# Altium footprint library Energy-Meter.PcbLib: 30 footprints (part 1 of 2)
Each footprint in its own frame and in the unit in brackets; x right, y up, seen from the top. Pads: shape width x height; smd on the part's side, far side on the other; paste and mask are expansions set on the pad; w line width, h text height; cw(c..) or ccw(c..) is an arc to the next point about the centre after c.
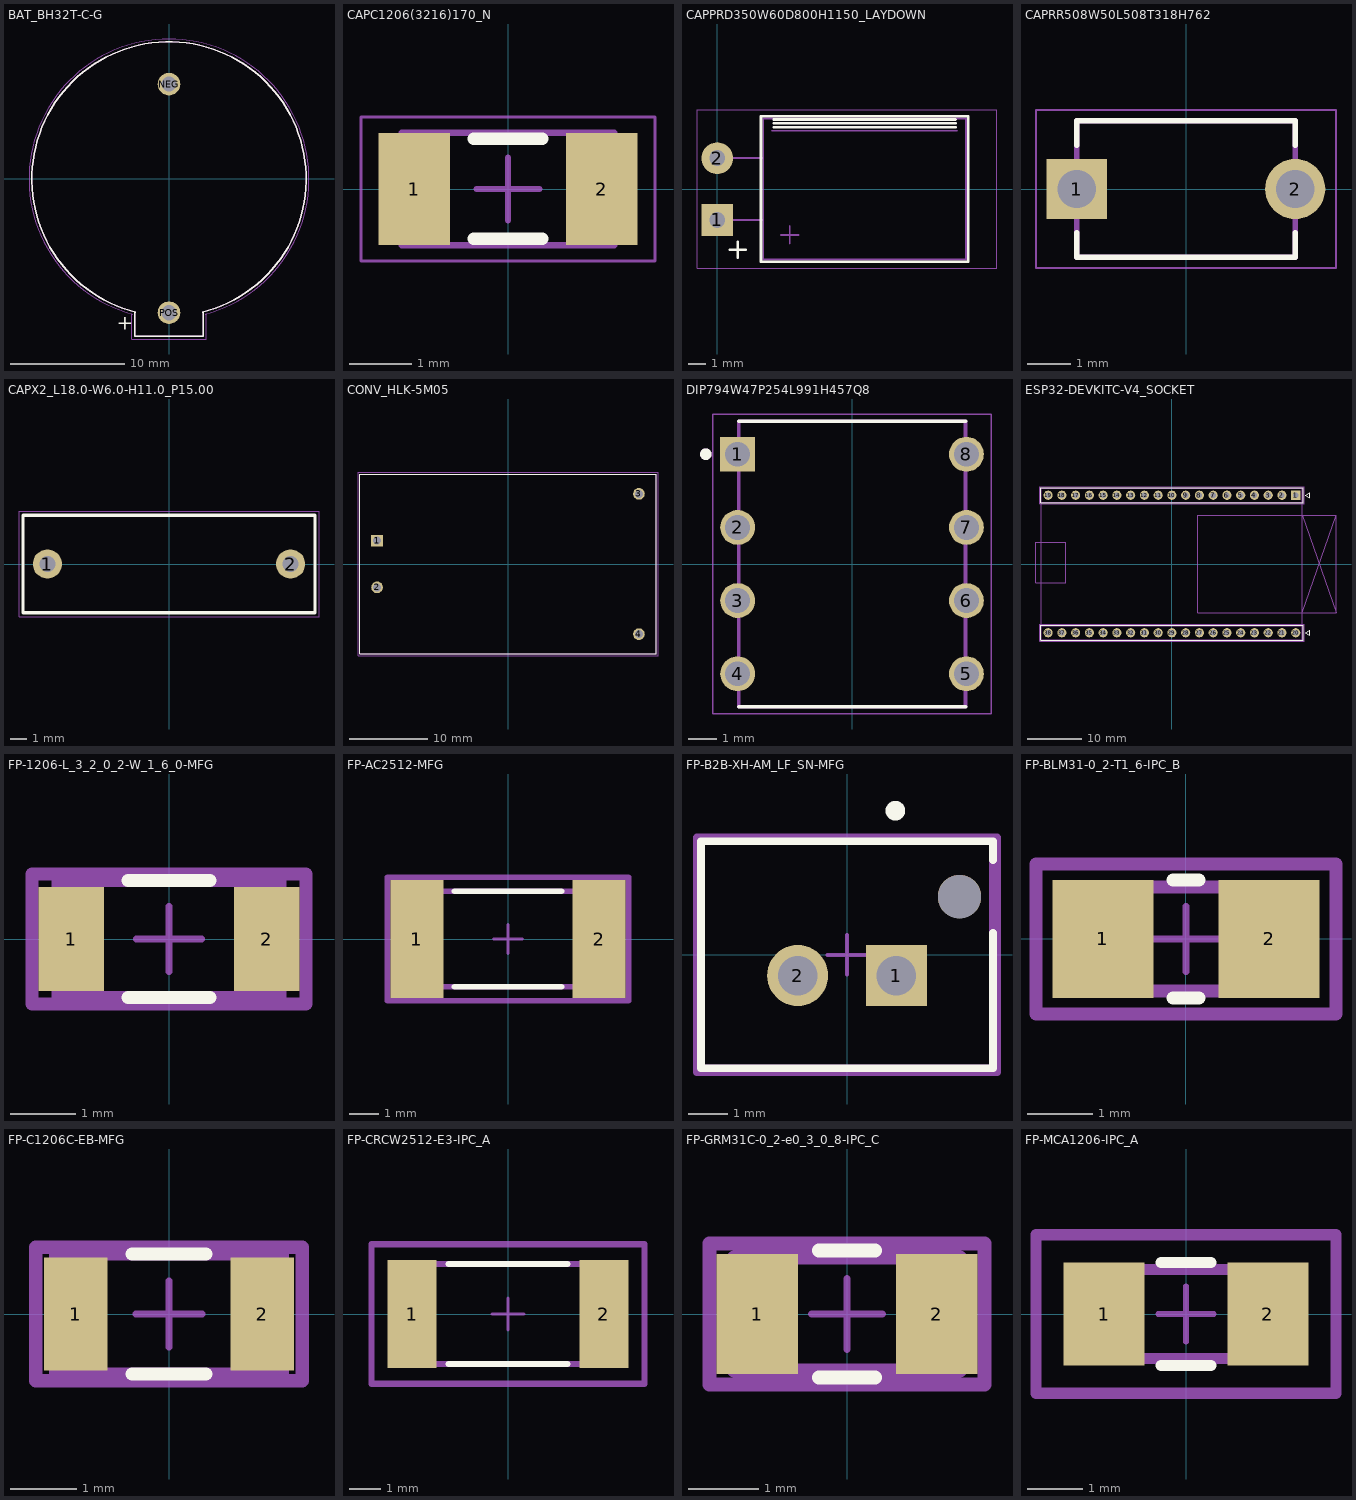
[diagram p0: the footprints below, top view; thin cyan lines are the x and y axes]

## BAT_BH32T-C-G [mil]
height 366.14
pads (2):
  round 78 hole 52: NEG(0,326.77) POS(0,-460.63)
Top Overlay:
  lines w5: -118.11,-457.68 -118.11,-541.34 118.11,-541.34 118.11,-457.68 ; -114.32,-458.64 cw(c0,-0.11) 114.32,-458.64
  text "+" at -180.31,-519.68 h50
Top 3D Body:
  lines w5: -118.11,-457.68 -118.11,-541.34 118.11,-541.34 118.11,-457.68 ; -114.32,-458.64 cw(c0,-0.11) 114.32,-458.64
Top Courtyard:
  lines w1.97: -127.95,-465 -127.95,-551.18 127.95,-551.18 127.95,-465 ; -124.82,-465.85 cw(c0,-0.01) 124.82,-465.85
3D body "BH32T-C-G--3DModel-STEP-1.STEP": height 310, standoff -157, extent -474.98,-535 474.71,475

## CAPC1206(3216)170_N [mm] "Chip Capacitor, Body 3.2x1.6mm, Height 1.7mm, IPC Medium Density"
height 1.7
pads (2):
  rect 1.15x1.8 smd: 1(-1.5,0) 2(1.5,0)
Top Overlay:
  lines w0.2: -0.55,-0.8 0.55,-0.8 ; -0.55,0.8 0.55,0.8
Top 3D Body:
  lines w0.1: -1.7,-0.9 -1.7,0.9 1.7,0.9 1.7,-0.9 -1.7,-0.9
Top Courtyard:
  lines w0.05: -2.35,-1.15 -2.35,1.15 2.35,1.15 2.35,-1.15 -2.35,-1.15
  lines w0.1: -0.5,0 0.5,0 ; 0,-0.5 0,0.5
3D body: height 1.7, standoff 0, extent -1.2,-0.9 1.2,0.9
3D body: height 1.7, standoff 0, extent -1.7,-0.9 -1.2,0.9
3D body: height 1.7, standoff 0, extent 1.2,-0.9 1.7,0.9

## CAPPRD350W60D800H1150_LAYDOWN [mm] "Radial electrolytic cap laid down, D8x11.5mm, 3.5mm pitch, leads 0.6mm bent 2mm from seal"
height 8.05
pads (2):
  rect 1.8x1.8 hole 0.9: 1(0,-1.75)
  round 1.8 hole 0.9: 2(0,1.75)
Top Overlay:
  lines w0.15: 0.7,-3.45 1.6,-3.45 ; 1.15,-3.9 1.15,-3 ; 3.2,3.5 13.5,3.5 ; 3.2,3.72 13.5,3.72 ; 3.2,3.94 13.5,3.94 ; 2.48,-4.12 2.48,4.12 14.22,4.12 14.22,-4.12 2.48,-4.12
Top 3D Body:
  lines w0.1: 0,-1.75 2.6,-1.75 ; 0,1.75 2.6,1.75 ; 3.1,3.3 13.6,3.3 ; 3.6,-2.6 4.6,-2.6 ; 4.1,-3.1 4.1,-2.1 ; 2.6,-4 2.6,4 14.1,4 14.1,-4 2.6,-4
Top Courtyard:
  lines w0.05: -1.15,-4.5 -1.15,4.5 15.85,4.5 15.85,-4.5 -1.15,-4.5
3D body "CAP_EL_470UF_10V_D8X11.5_P3.5_LAYDOWN.step": height 8.04, standoff -3, extent -0.298,-4.053 14.105,4.036

## CAPRR508W50L508T318H762 [mm]
height 7.62
pads (2):
  rect 1.398x1.398 / inner round 1.398 / far side rect 1.398x1.398 hole 0.89: 1(-2.54,0)
  round 1.398 hole 0.89: 2(2.54,0)
Top Overlay:
  lines w0.127: -2.54,-1.019 -2.54,-1.587 2.54,-1.587 2.54,-1.019 ; -2.54,1.019 -2.54,1.587 2.54,1.587 2.54,1.019
Top 3D Body:
  lines w0.127: -2.54,-1.587 -2.54,1.587 2.54,1.587 2.54,-1.587 -2.54,-1.587
Top Courtyard:
  lines w0.05: -3.489,-1.837 -3.489,1.837 3.489,1.837 3.489,-1.837 -3.489,-1.837
3D body "AR215C104K4R.STEP": height 6.37, standoff -7.11, extent -2.794,-1.587 2.794,1.587

## CAPX2_L18.0-W6.0-H11.0_P15.00 [mm] "Boxed radial film capacitor, body 18.0 x 6.0 mm footprint x 11.0 mm high, 15.00 mm pitch, 1.00 mm holes. X2 safety cap, 275 VAC"
height 11.5
pads (2):
  round 1.8 hole 1: 1(-7.5,0) 2(7.5,0)
Top Overlay:
  lines w0.2: -9,-3 9,-3 9,3 -9,3 -9,-3
Top 3D Body:
  lines w0.1: -9,-3 9,-3 9,3 -9,3 -9,-3
Top Courtyard:
  lines w0.05: -9.25,-3.25 9.25,-3.25 9.25,3.25 -9.25,3.25 -9.25,-3.25
3D body "CAP_X2_0u1_275VAC_P15.step": height 11.5, standoff -1.6, extent -9,-3 9,3

## CONV_HLK-5M05 [mm]
height 9.3
pads (4):
  rect 1.5x1.5 / inner round 1.5 / far side rect 1.5x1.5 hole 1: 1(-16.8,3)
  round 1.5 hole 1: 2(-16.8,-3) 3(16.8,9) 4(16.8,-9)
Top Overlay:
  lines w0.127: -19,-11.5 19,-11.5 19,11.5 -19,11.5 -19,-11.5
Top 3D Body:
  lines w0.127: -19,-11.5 -19,11.5 19,11.5 19,-11.5 -19,-11.5
Top Courtyard:
  lines w0.05: -19.25,-11.75 -19.25,11.75 19.25,11.75 19.25,-11.75 -19.25,-11.75
3D body "step_temp.STEP": height 18.05, standoff -4.95, extent -19,-11.5 19,11.5

## DIP794W47P254L991H457Q8 [mm]
height 9.3
pads (8):
  rect 1.21x1.21 / inner round 1.21 / far side rect 1.21x1.21 hole 0.86 mask+0.102: 1(-3.97,3.81)
  round 1.21 hole 0.86 mask+0.102: 2(-3.97,1.27) 3(-3.97,-1.27) 4(-3.97,-3.81) 5(3.97,-3.81) 6(3.97,-1.27) 7(3.97,1.27) 8(3.97,3.81)
Top Overlay:
  circle w0.2: c-5.075,3.81 r0.1
  lines w0.127: -3.935,-4.955 3.935,-4.955 ; -3.935,4.955 3.935,4.955
Top 3D Body:
  circle w0.2: c-5.075,3.81 r0.1
  lines w0.127: -3.935,-4.955 -3.935,4.955 3.935,4.955 3.935,-4.955 -3.935,-4.955
Top Courtyard:
  lines w0.05: -4.825,-5.205 -4.825,5.205 4.825,5.205 4.825,-5.205 -4.825,-5.205
3D body "step_temp.STEP": height 4.57, standoff -3.81, extent -3.949,-4.687 3.949,4.687

## ESP32-DEVKITC-V4_SOCKET [mm] "ESP32-DevKitC V4 socketed on 2x 1x19 female headers 2.54mm H8.5mm, rows 25.4mm apart"
height 15.71
pads (38):
  rect 1.7x1.7 hole 1: 1(22.86,12.7)
  round 1.7 hole 1: 2(20.32,12.7) 3(17.78,12.7) 4(15.24,12.7) 5(12.7,12.7) 6(10.16,12.7) 7(7.62,12.7) 8(5.08,12.7) 9(2.54,12.7) 10(0,12.7) 11(-2.54,12.7) 12(-5.08,12.7) 13(-7.62,12.7) 14(-10.16,12.7) 15(-12.7,12.7) 16(-15.24,12.7) 17(-17.78,12.7) 18(-20.32,12.7) 19(-22.86,12.7) 20(22.86,-12.7) 21(20.32,-12.7) 22(17.78,-12.7) 23(15.24,-12.7) 24(12.7,-12.7) 25(10.16,-12.7) 26(7.62,-12.7) 27(5.08,-12.7) 28(2.54,-12.7) 29(0,-12.7) 30(-2.54,-12.7) 31(-5.08,-12.7) 32(-7.62,-12.7) 33(-10.16,-12.7) 34(-12.7,-12.7) 35(-15.24,-12.7) 36(-17.78,-12.7) 37(-20.32,-12.7) 38(-22.86,-12.7)
Top Overlay:
  lines w0.15: -24.25,-14.08 24.25,-14.08 24.25,-11.32 -24.25,-11.32 -24.25,-14.08 ; -24.25,11.32 24.25,11.32 24.25,14.08 -24.25,14.08 -24.25,11.32 ; 24.65,-12.7 25.45,-12.2 25.45,-13.2 24.65,-12.7 ; 24.65,12.7 25.45,13.2 25.45,12.2 24.65,12.7
Top 3D Body:
  lines w0.1: 24.1,-9 30.3,9 ; 24.1,9 30.3,-9 ; 30.3,-9 4.8,-9 4.8,9 30.3,9 ; 30.3,-9 30.3,9 ; -25.1,-3.45 -19.6,-3.45 -19.6,4.05 -25.1,4.05 -25.1,-3.45 ; -24.13,-13.97 24.13,-13.97 24.13,-11.43 -24.13,-11.43 -24.13,-13.97 ; -24.13,11.43 24.13,11.43 24.13,13.97 -24.13,13.97 -24.13,11.43 ; -24.1,-13.95 24.1,-13.95 24.1,13.95 -24.1,13.95 -24.1,-13.95
Top Courtyard:
  lines w0.05: -24.4,-14.25 24.4,-14.25 24.4,-11.15 -24.4,-11.15 -24.4,-14.25 ; -24.4,11.15 24.4,11.15 24.4,14.25 -24.4,14.25 -24.4,11.15
3D body "FemaleHeader_1x19_P2.54_H8.5_J2.step": height 8.5, standoff 0, extent -24.13,11.43 24.13,13.97
3D body "FemaleHeader_1x19_P2.54_H8.5_J3.step": height 8.5, standoff 0, extent -24.13,-13.97 24.13,-11.43
3D body "ESP32-DevKitC-V4_on_8.5mm_headers.step": height 15.71, standoff 8.5, extent -25.1,-13.97 30.3,13.97

## FP-1206-L_3_2_0_2-W_1_6_0-MFG [mm]
height 9.3
pads (2):
  rect 1x1.6 smd paste+0 mask+0: 1(-1.5,0) 2(1.5,0)
Top Overlay:
  lines w0.2: -0.625,-0.9 0.625,-0.9 ; -0.625,0.9 0.625,0.9
Top Assembly:
  lines w0.2: -2.1,-1 2.1,-1 2.1,1 -2.1,1 -2.1,-1
  text ".Designator" at 0,0.188 h1
Top 3D Body:
  lines w0.2: -1.7,-0.9 1.7,-0.9 1.7,0.9 -1.7,0.9 -1.7,-0.9
Top Courtyard:
  lines w0.2: -2.1,-1 2.1,-1 2.1,1 -2.1,1 -2.1,-1
Top Component Center:
  lines w0.1: -0.5,0 0.5,0 ; 0,-0.5 0,0.5
3D body "Cap_AVX_12066C226KAT2A_eec.STEP": height 2.29, standoff 0, extent -1.6,-0.8 1.6,0.8

## FP-AC2512-MFG [mm]
height 9.3
pads (2):
  rect 1.8x4 smd paste+0 mask+0: 1(-3.1,0) 2(3.1,0)
Top Overlay:
  lines w0.2: -1.825,-1.625 1.825,-1.625 ; -1.825,1.625 1.825,1.625
Top Assembly:
  lines w0.2: -4.1,-2.1 -4.1,2.1 4.1,2.1 4.1,-2.1 -4.1,-2.1
  text ".Designator" at 0,0.188 h1
Top 3D Body:
  lines w0.2: -3.225,-1.625 -3.225,1.625 3.225,1.625 3.225,-1.625 -3.225,-1.625
Top Courtyard:
  lines w0.2: -4.1,-2.1 -4.1,2.1 4.1,2.1 4.1,-2.1 -4.1,-2.1
Top Component Center:
  lines w0.1: -0.5,0 0.5,0 ; 0,-0.5 0,0.5
3D body "Res_Yageo_AC2512FK-0712K1L_eec.STEP": height 0.65, standoff 0, extent -3.192,-1.54 3.158,1.56

## FP-B2B-XH-AM_LF_SN-MFG [mm]
height 9.3
pads (3):
  rect 1.55x1.55 hole 1 paste-2539.97 mask+0: 1(1.25,-0.525)
  round 1.55 hole 1 paste-2539.97 mask+0: 2(-1.25,-0.525)
  round 1.1 hole 1.1 unplated paste-2539.97 mask+0: ""(2.85,1.475)
Top Overlay:
  circle w0.25: c1.225,3.65 r0.125
  lines w0.2: 3.7,0.55 3.7,-2.875 -3.7,-2.875 -3.7,2.875 3.7,2.875 3.7,2.4
Top Assembly:
  lines w0.2: -3.8,-2.975 3.8,-2.975 3.8,2.975 -3.8,2.975 -3.8,-2.975
  text ".Designator" at 0,0.188 h1
Top 3D Body:
  lines w0.2: -3.7,-2.875 3.7,-2.875 3.7,2.875 -3.7,2.875 -3.7,-2.875
Top Courtyard:
  lines w0.2: -3.8,-2.975 3.8,-2.975 3.8,2.975 -3.8,2.975 -3.8,-2.975
Top Component Center:
  lines w0.1: -0.5,0 0.5,0 ; 0,-0.5 0,0.5
3D body "Conn_JST_B2B-XH-AM_LF_SN_eec.STEP": height 0.25, standoff 0, extent -3.8,-2.975 3.8,2.975

## FP-BLM31-0_2-T1_6-IPC_B [mm]
height 9.3
pads (2):
  rect 1.554x1.806 smd paste+0 mask+0: 1(-1.276,0) 2(1.276,0)
Top Overlay:
  lines w0.2: -0.199,-0.903 0.199,-0.903 ; -0.199,0.903 0.199,0.903
Top Assembly:
  lines w0.2: -2.303,-1.153 2.303,-1.153 2.303,1.153 -2.303,1.153 -2.303,-1.153
  text ".Designator" at 0,0.188 h1
Top 3D Body:
  lines w0.2: -1.6,-0.8 1.6,-0.8 1.6,0.8 -1.6,0.8 -1.6,-0.8
Top Courtyard:
  lines w0.2: -2.303,-1.153 2.303,-1.153 2.303,1.153 -2.303,1.153 -2.303,-1.153
Top Component Center:
  lines w0.1: -0.5,0 0.5,0 ; 0,-0.5 0,0.5
3D body "FBead_Murata_BLM31KN121SH1L_eec.STEP": height 1.8, standoff 0, extent -1.6,-0.8 1.6,0.8

## FP-C1206C-EB-MFG [mm]
height 9.3
pads (2):
  rect 0.95x1.7 smd paste+0 mask+0: 1(-1.4,0) 2(1.4,0)
Top Overlay:
  lines w0.2: -0.55,-0.9 0.55,-0.9 ; -0.55,0.9 0.55,0.9
Top Assembly:
  lines w0.2: -2,-1 2,-1 2,1 -2,1 -2,-1
  text ".Designator" at 0,0.188 h1
Top 3D Body:
  lines w0.2: -1.7,-0.9 1.7,-0.9 1.7,0.9 -1.7,0.9 -1.7,-0.9
Top Courtyard:
  lines w0.2: -2,-1 2,-1 2,1 -2,1 -2,-1
Top Component Center:
  lines w0.1: -0.5,0 0.5,0 ; 0,-0.5 0,0.5
3D body "Cap_KEMET_C1206C472K4RACTU_eec.STEP": height 0.88, standoff 0, extent -1.6,-0.8 1.6,0.8

## FP-CRCW2512-E3-IPC_A [mm]
height 9.3
pads (2):
  rect 1.555x3.408 smd paste+0 mask+0: 1(-3.026,0) 2(3.026,0)
Top Overlay:
  lines w0.2: -1.873,-1.575 1.873,-1.575 ; -1.873,1.575 1.873,1.575
Top Assembly:
  lines w0.2: -4.303,-2.204 4.303,-2.204 4.303,2.204 -4.303,2.204 -4.303,-2.204
  text ".Designator" at 0,0.188 h1
Top 3D Body:
  lines w0.2: -3.15,-1.575 3.15,-1.575 3.15,1.575 -3.15,1.575 -3.15,-1.575
Top Courtyard:
  lines w0.2: -4.303,-2.204 4.303,-2.204 4.303,2.204 -4.303,2.204 -4.303,-2.204
Top Component Center:
  lines w0.1: -0.5,0 0.5,0 ; 0,-0.5 0,0.5
3D body "Res_Vishay_CRCW25121K80FKEG_eec.STEP": height 0.7, standoff 0, extent -3.15,-1.575 3.15,1.575

## FP-GRM31C-0_2-e0_3_0_8-IPC_C [mm]
pads (2):
  rect 1.155x1.706 smd paste+0 mask+0: 1(-1.276,0) 2(1.276,0)
Top Overlay:
  lines w0.2: -0.398,-0.9 0.398,-0.9 ; -0.398,0.9 0.398,0.9
Top Assembly:
  lines w0.2: -1.953,-1 -1.953,1 1.953,1 1.953,-1 -1.953,-1
  text ".Designator" at 0,0.188 h1
Top 3D Body:
  lines w0.2: -1.6,-0.8 -1.6,0.8 1.6,0.8 1.6,-0.8 -1.6,-0.8
Top Courtyard:
  lines w0.2: -1.953,-1 -1.953,1 1.953,1 1.953,-1 -1.953,-1
Top Component Center:
  lines w0.1: -0.5,0 0.5,0 ; 0,-0.5 0,0.5
3D body "Cap_Murata_GRM31CR71E106KA12L_eec.STEP": height 1.8, standoff 0, extent -1.6,-0.8 1.6,0.8

## FP-MCA1206-IPC_A [mm]
height 9.3
pads (2):
  rect 1.456x1.858 smd paste+0 mask+0: 1(-1.476,0) 2(1.476,0)
Top Overlay:
  lines w0.2: -0.448,-0.929 0.448,-0.929 ; -0.448,0.929 0.448,0.929
Top Assembly:
  lines w0.2: -2.704,-1.429 2.704,-1.429 2.704,1.429 -2.704,1.429 -2.704,-1.429
  text ".Designator" at 0,0.188 h1
Top 3D Body:
  lines w0.2: -1.6,-0.8 1.6,-0.8 1.6,0.8 -1.6,0.8 -1.6,-0.8
Top Courtyard:
  lines w0.2: -2.704,-1.429 2.704,-1.429 2.704,1.429 -2.704,1.429 -2.704,-1.429
Top Component Center:
  lines w0.1: -0.5,0 0.5,0 ; 0,-0.5 0,0.5
3D body "Res_Vishay_MCA12060D1541BP100_eec.STEP": height 0.65, standoff 0, extent -1.6,-0.8 1.6,0.8